# EAGLE library part HDR2X4-M (library Cynara-Connectors)
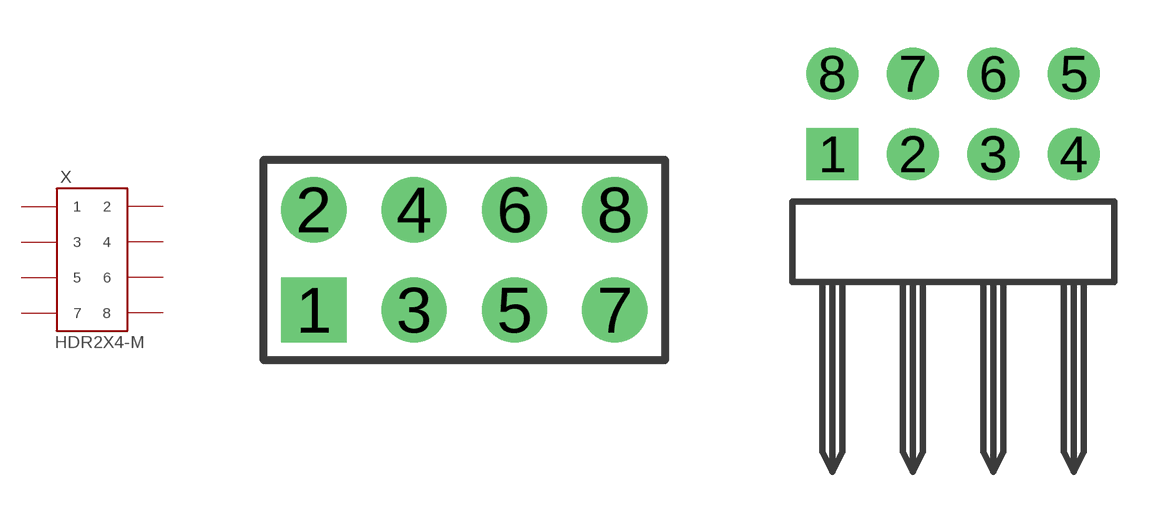
[diagram p13: symbol with the pads of 2X4_MALE; footprints 2X4_MALE, 61300821021]

Designator prefix X

## HDR2X4-M-VERT (MANUFACTURER: WURTH; MANUFACTURERPARTNO: 61300821121; VALUE: HDR2X4)  [2X4_MALE]
1  1  pas
2  2  pas
3  3  pas
4  4  pas
5  5  pas
6  6  pas
7  7  pas
8  8  pas

## HDR2X4-M-RA (MANUFACTURER: WURTH; MANUFACTURERPARTNO: 61300821021; VALUE: HDR2X4 RA)  [61300821021]
Pads as for 2X4_MALE

## Footprint 2X4_MALE (pad centres in mm)
WR-PHD 2.54mm Dual Pin Header; 8 Pins
drill 1.1 square: 1 -3.81,-1.27
drill 1.1: 2 -3.81,1.27; 3 -1.27,-1.27; 4 -1.27,1.27; 5 1.27,-1.27; 6 1.27,1.27; 7 3.81,-1.27; 8 3.81,1.27

## Footprint 61300821021 (pad centres in mm)
WR-PHD 2.54mm Angled Dual Pin Header, 8 Pins
drill 1.1 square: 1 -3.81,0
drill 1.1: 2 -1.27,0; 3 1.27,0; 4 3.81,0; 5 3.81,2.54; 6 1.27,2.54; 7 -1.27,2.54; 8 -3.81,2.54